# Altium integrated library 2035590607.IntLib: 1 symbol
Pins are listed as number, name and electrical type; pins without a type are passive.

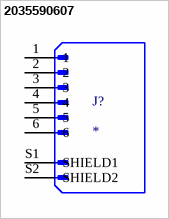
[diagram p0: symbol 2035590607]

## 2035590607
designator J?
MP: 2035590607; Package: None; Availability: Unavailable; Price: None; Value: *
footprint MOLEX_2035590607
pins: 1, 2, 3, 4, 5, 6, S1 SHIELD1, S2 SHIELD2